# Altium footprint library libatfc.PcbLib: 59 footprints (part 4 of 4)
Each footprint in its own frame and in the unit in brackets; x right, y up, seen from the top. Pads: shape width x height; smd on the part's side, far side on the other; paste and mask are expansions set on the pad; w line width, h text height; cw(c..) or ccw(c..) is an arc to the next point about the centre after c.
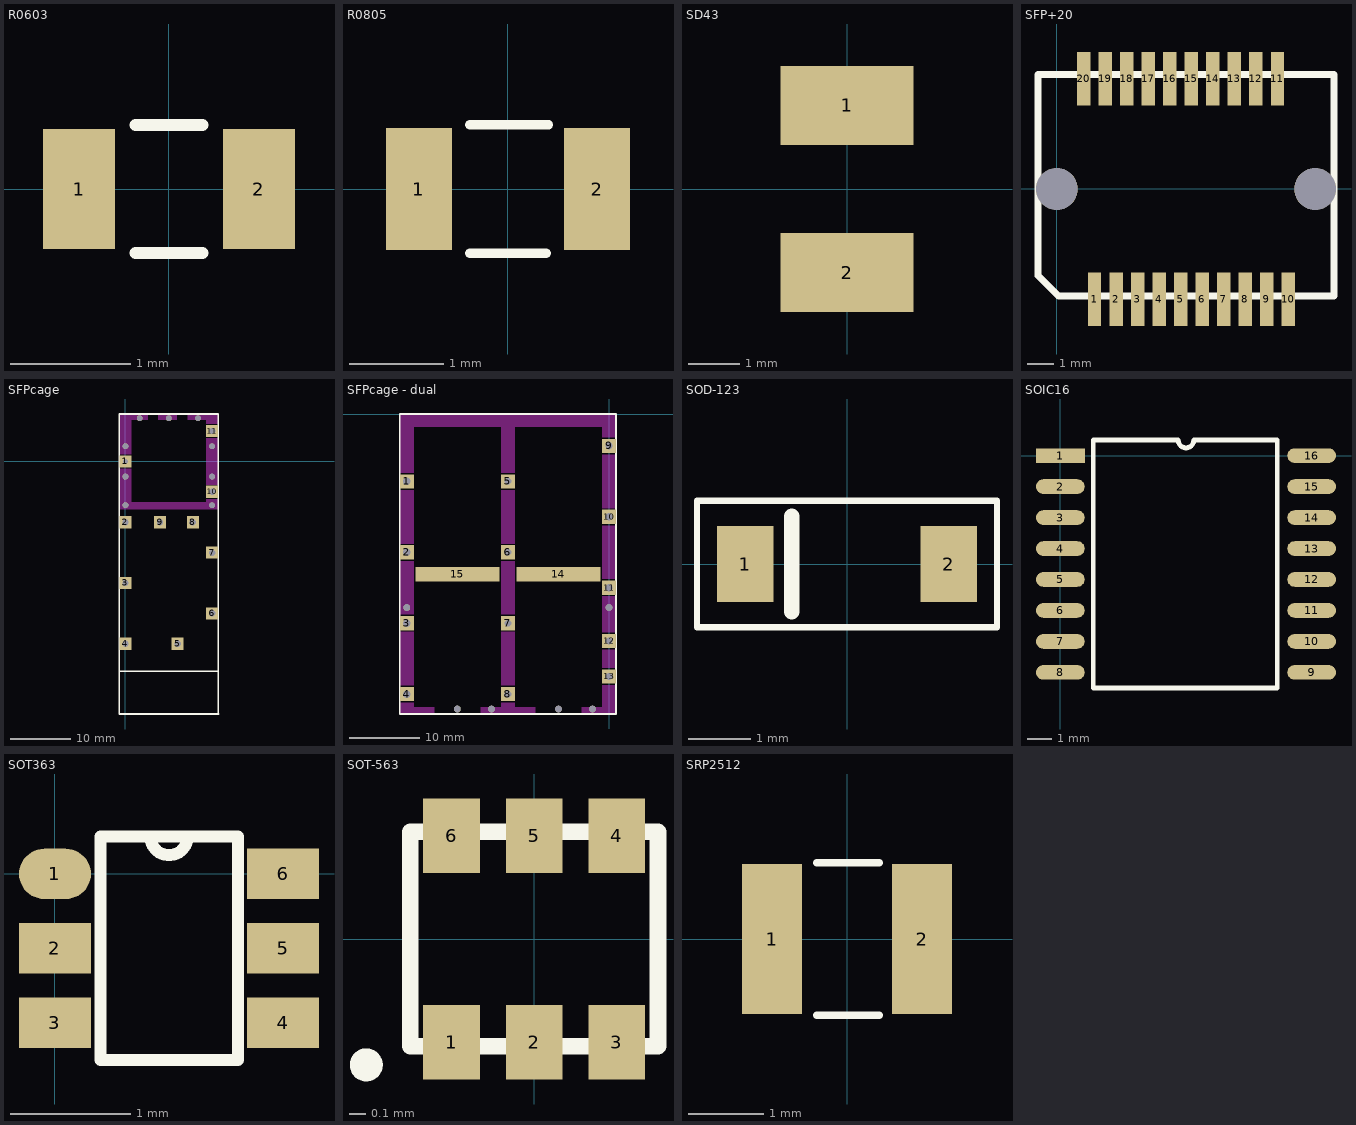
[diagram p3: the footprints below, top view; thin cyan lines are the x and y axes]

## R0603 [mm]
pads (2):
  rect 0.6x1 smd: 1(-0.75,0) 2(0.75,0)
Top Overlay:
  lines w0.1: -0.279,-0.533 0.279,-0.533 ; -0.279,0.533 0.279,0.533
3D body: height 0.35, standoff 0, extent -0.508,-0.444 0.508,0.445
3D body: height 0.35, standoff 0, extent 0.508,-0.444 0.762,0.445
3D body: height 0.35, standoff 0, extent -0.762,-0.444 -0.508,0.445

## R0805 [mm]
pads (2):
  rect 0.7x1.3 smd: 1(-0.95,0) 2(0.95,0)
Top Overlay:
  lines w0.1: -0.406,-0.686 0.406,-0.686 ; -0.406,0.686 0.432,0.686
3D body: height 0.35, standoff 0, extent 0.762,-0.603 1.016,0.603
3D body: height 0.35, standoff 0, extent -0.762,-0.603 0.762,0.603
3D body: height 0.35, standoff 0, extent -1.016,-0.603 -0.762,0.603

## SD43 [mm]
pads (2):
  rect 2.6x1.55 smd: 1(0,1.64) 2(0,-1.64)
3D body "Coilcraft-SD43.STEP": height 3.45, standoff 0, extent -2.1,-2.314 2.1,2.314

## SFP+20 [mm]
pads (22):
  rect 0.5x2 smd: 1(1.4,-4.1) 2(2.2,-4.1) 3(3,-4.1) 4(3.8,-4.1) 5(4.6,-4.1) 6(5.4,-4.1) 7(6.2,-4.1) 8(7,-4.1) 9(7.8,-4.1) 10(8.6,-4.1) 11(8.2,4.1) 12(7.4,4.1) 13(6.6,4.1) 14(5.8,4.1) 15(5,4.1) 16(4.2,4.1) 17(3.4,4.1) 18(2.6,4.1) 19(1.8,4.1) 20(1,4.1)
  round 1.55 hole 1.55 paste+0 mask+0: ""(0,0) ""(9.6,0)
Top Overlay:
  lines w0.254: -0.7,-3.223 -0.7,4.25 10.3,4.25 10.3,-3.98 0.057,-3.98 -0.7,-3.223
3D body "744410001.stp": height 5.37, standoff -0.9, extent -0.776,-4.457 10.224,4.693

## SFPcage [mm]
pads (20):
  round 0.95 hole 0.95: 0(0,-7.2) 0(0,-2.5) 0(0,2.5) 0(2.33,7.1) 0(7.13,7.1) 0(11.93,7.1) 0(14.25,-7.2) 0(14.25,-2.5) 0(14.25,2.5)
  rect 2x2 hole 0.85: 1(0,0)
  rect 2x2 hole 1.05: 2(0,-10) 3(0,-20) 4(0,-30) 5(8.58,-30) 6(14.25,-25) 7(14.25,-15) 8(11.08,-10) 9(5.68,-10) 10(14.25,-5) 11(14.25,5)
Top Layer keep-out:
  rectangle: 10.18,6.8 15.25,7.8
  rectangle: -1,6.8 3.68,7.8
  rectangle: 13.26,6.172 15.25,7.8
  rectangle: -1,-7.899 15.26,-6.7
  rectangle: 5.38,6.8 8.48,7.8
  rectangle: -1,-7.722 1,-1.168
  rectangle: 13.235,-3.861 15.225,3.861
  rectangle: 13.259,-7.2 15.249,-6.172
  rectangle: -1,1.168 1,7.8
Top Overlay:
  lines w0.254: -1,-34.5 15.25,-34.5 ; -1,-41.545 -0.991,-41.554 15.316,-41.554 15.25,-41.488 15.25,7.8 -1,7.8 -1,-41.545
3D body "c-2007194-1-b-3d.stp": height 10.62, standoff -2.97, extent -0.959,-41.58 15.336,7.22

## SFPcage - dual [mm]
pads (21):
  round 0.95 hole 0.95: 0(-28.5,-27.3) 0(-21.38,-41.6) 0(-16.58,-41.6) 0(-7.13,-41.6) 0(-2.33,-41.6) 0(0,-27.3)
  rect 2x2 hole 1.05: 1(-28.5,-9.5) 2(-28.5,-19.5) 3(-28.5,-29.5) 4(-28.5,-39.5) 9(0,-4.5) 10(0,-14.5) 11(0,-24.5)
  rect 2x2 hole 0.95: 5(-14.25,-9.5) 6(-14.25,-19.5) 7(-14.25,-29.5) 8(-14.25,-39.5) 12(0,-32) 13(0,-37)
  rect 11.8x2 smd: 14(-7.125,-22.6) 15(-21.375,-22.6)
Top Layer keep-out:
  rectangle: -15.25,-42.3 -13.25,-40.665
  rectangle: -15.25,-28.296 -13.25,-20.701
  rectangle: -15.25,-18.313 -13.25,-10.693
  rectangle: -15.25,-38.303 -13.25,-30.683
  rectangle: -15.25,-42.3 -10.37,-41.3
  rectangle: -3.88,-42.3 1,-41.3
  rectangle: -29.5,-42.3 -24.62,-41.3
  rectangle: -18.13,-42.3 -13.25,-41.3
  rectangle: -15.25,-8.306 -13.25,0
  rectangle: -1,-3.302 1,0
  rectangle: -29.5,-1.803 1.016,0
  rectangle: -29.5,-8.306 -27.5,0
  rectangle: -29.5,-38.303 -27.5,-30.683
  rectangle: -29.5,-18.313 -27.5,-10.693
  rectangle: -29.5,-28.296 -27.5,-20.701
  rectangle: -29.5,-42.3 -27.5,-40.665
  rectangle: -1,-13.31 1,-5.69
  rectangle: -1,-23.292 1,-15.697
  rectangle: -1,-30.81 1,-25.679
  rectangle: -1,-35.814 1,-33.198
  rectangle: -1,-42.3 1,-38.202
Top Overlay:
  lines w0.254: -29.5,-42.3 1,-42.3 1,0 -29.5,0 -29.5,-42.3
3D body "747540220.stp": height 10.47, standoff -3.11, extent -29.095,-42.367 1.053,6.658

## SOD-123 [mm]
pads (2):
  rect 0.91x1.22 smd: 1(-1.635,0) 2(1.635,0)
Top Overlay:
  lines w0.1: -2.413,-1.016 -0.889,-1.016 2.413,-1.016 2.413,1.016 -0.889,1.016 -2.413,1.016 -2.413,-1.016
  lines w0.254: -0.889,-0.762 -0.889,0.762
3D body: height 1.17, standoff 0, extent -1.27,-0.635 1.27,0.635
3D body: height 0.15, standoff 0, extent -1.651,-0.381 -1.27,0.381
3D body: height 0.15, standoff 0, extent 1.27,-0.381 1.651,0.381
3D body: height 1.18, standoff 1.17, extent -1.016,-0.635 -0.762,0.635

## SOIC16 [mm]
height 2.65
pads (16):
  rect 2x0.6 smd: 1(0,0)
  oval 2x0.6 smd: 2(0,-1.27) 3(0,-2.54) 4(0,-3.81) 5(0,-5.08) 6(0,-6.35) 7(0,-7.62) 8(0,-8.89) 9(10.3,-8.89) 10(10.3,-7.62) 11(10.3,-6.35) 12(10.3,-5.08) 13(10.3,-3.81) 14(10.3,-2.54) 15(10.3,-1.27) 16(10.3,0)
Top Overlay:
  lines w0.2: 1.346,-9.525 1.346,0.635 4.832,0.635 ccw(c5.15,0.635) 5.467,0.635 8.89,0.635 8.89,-9.525 1.346,-9.525
3D body: height 1, standoff 0, extent 1.346,-9.525 8.89,0.635

## SOT363 [mm]
pads (6):
  oval 0.6x0.42 smd: 1(0,0)
  rect 0.6x0.42 smd: 2(0,-0.62) 3(0,-1.24) 4(1.9,-1.24) 5(1.9,-0.62) 6(1.9,0)
Top Overlay:
  lines w0.1: 0.381,-1.55 1.524,-1.55 1.524,0.31 0.795,0.31 ccw(c0.95,0.31) 1.105,0.31 0.381,0.31 0.381,-0.639 0.381,-1.109 0.381,-1.55

## SOT-563 [mm]
pads (6):
  rect 0.343x0.45 smd: 1(-0.5,-0.625) 2(0,-0.625) 3(0.5,-0.625) 4(0.5,0.625) 5(0,0.625) 6(-0.5,0.625)
Top Overlay:
  circle w0.1: c-1.016,-0.762 r0.05
  lines w0.1: -0.75,-0.65 0.75,-0.65 0.75,0.65 -0.75,0.65 -0.75,-0.65
3D body: height 0.45, standoff 0, extent -0.762,-0.635 0.762,0.635

## SRP2512 [mm]
height 1.2
pads (2):
  rect 0.8x2 smd: 1(-1,0) 2(1,0)
Top Overlay:
  lines w0.1: -0.406,-1.016 0.432,-1.016 ; -0.406,1.016 0.432,1.016